# EAGLE library part MC_XFMR (library wheat)
MOVING COIL TRANSFORMER SOWTER OR JENSEN
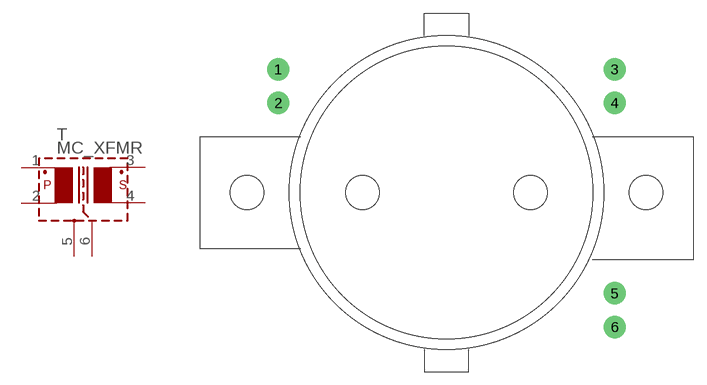
[diagram p29: symbol with the pads of MC_XFMR; footprint MC_XFMR]

Designator prefix T

## MC_XFMR  [MC_XFMR]
1  1  pas
2  2  pas
3  3  pas
4  4  pas
5  5  pas
6  6  pas

## Footprint MC_XFMR (pad centres in mm)
MOVING-COIL XFMR SOWTER OR JENSEN
drill 1.016 pad 2.54: 1 -19.05,13.97; 2 -19.05,10.16; 3 19.05,13.97; 4 19.05,10.16; 5 19.05,-11.43; 6 19.05,-15.24
hole 3.81 at -9.525,0
hole 3.81 at 9.525,0
hole 3.81 at 22.606,0
hole 3.81 at -22.606,0